# Altium footprint library PCBLib.PcbLib: 168 footprints (part 1 of 11)
Each footprint in its own frame and in the unit in brackets; x right, y up, seen from the top. Pads: shape width x height; smd on the part's side, far side on the other; paste and mask are expansions set on the pad; w line width, h text height; cw(c..) or ccw(c..) is an arc to the next point about the centre after c.
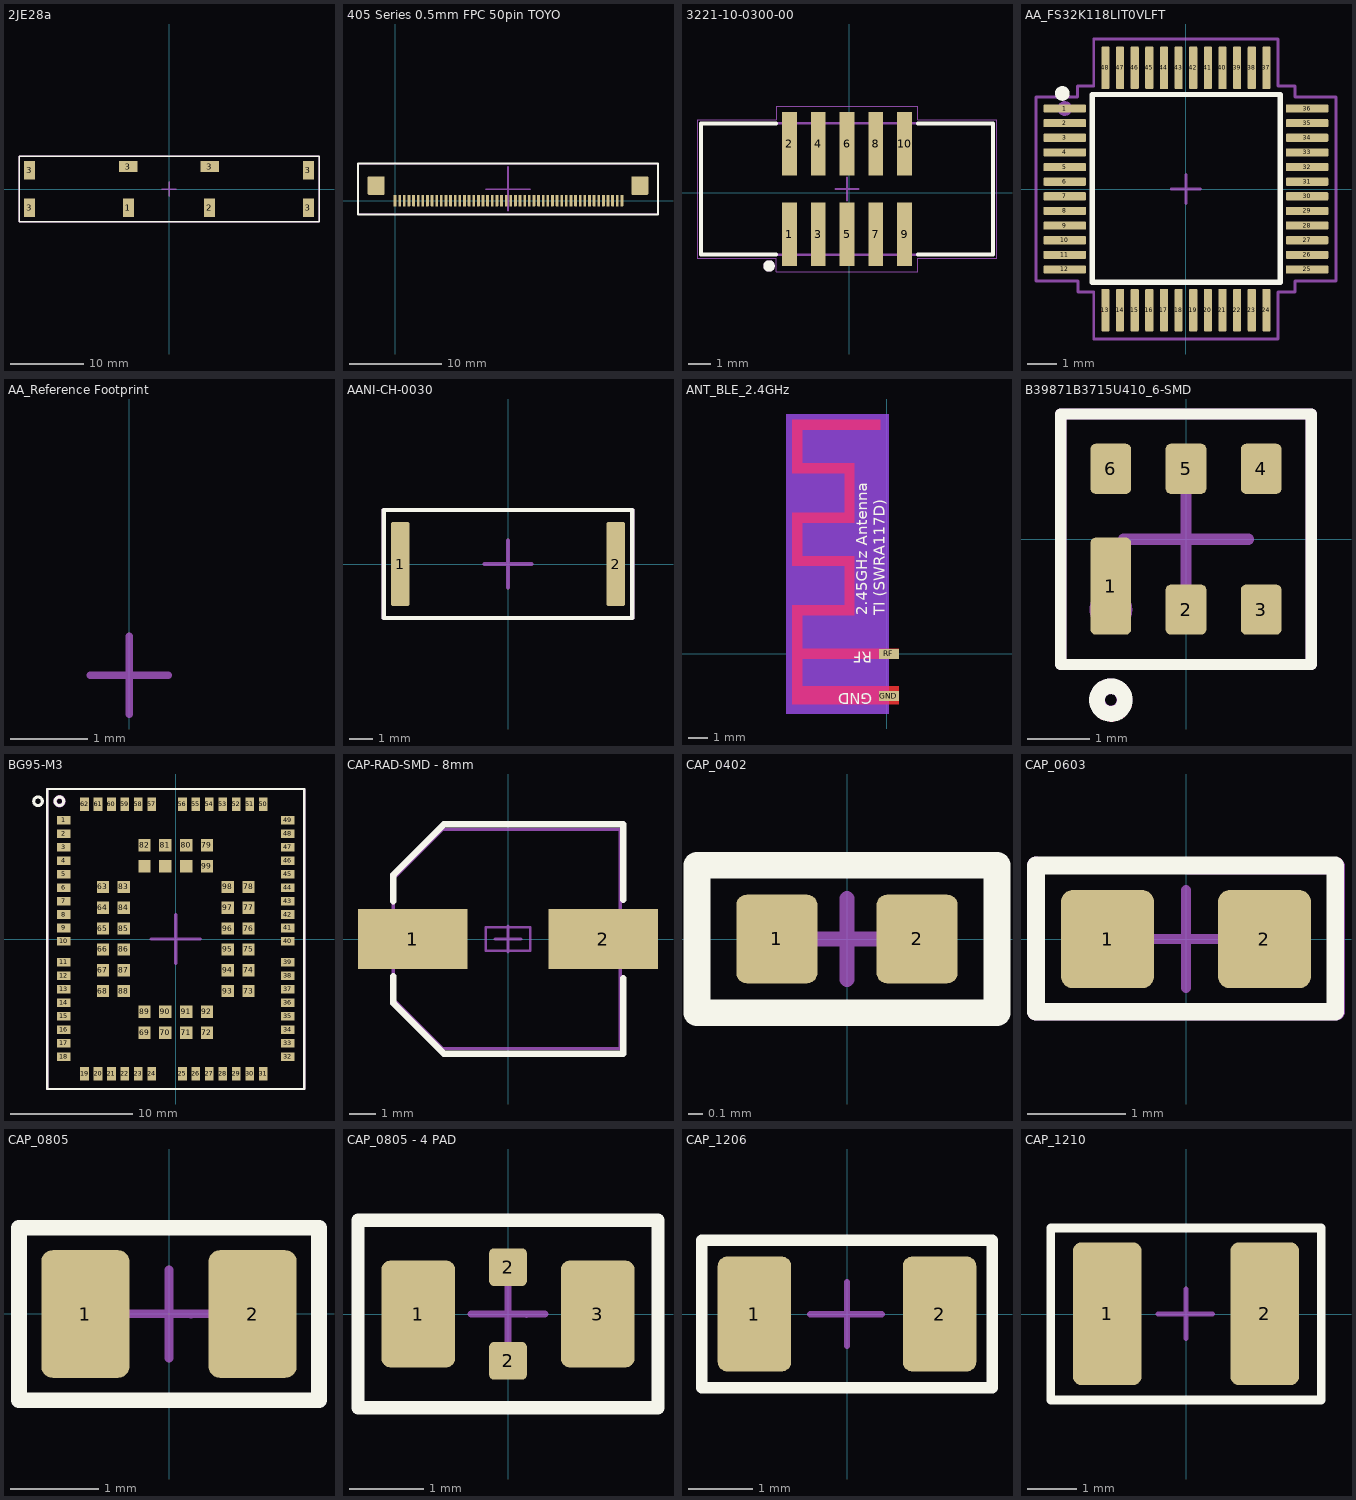
[diagram p0: the footprints below, top view; thin cyan lines are the x and y axes]

## 2JE28a [mm]
pads (8):
  rect 1.5x2.5 smd mask+0: 1(-5.55,-2.55) 2(5.55,-2.55) 3(-19.05,-2.55) 3(-19.05,2.55) 3(19.05,-2.55) 3(19.05,2.55)
  rect 2.5x1.5 smd mask+0: 3(-5.55,3.05) 3(5.55,3.05)
Top Overlay:
  lines w0.18: -20.5,-4.5 20.5,-4.5 20.5,4.5 -20.5,4.5 -20.5,-4.5
Top Assembly:
  lines w0.18: -20.5,-4.5 20.5,-4.5 20.5,4.5 -20.5,4.5 -20.5,-4.5
Top Component Center:
  lines w0.18: -1,0 1,0 ; 0,-1 0,1
Top Courtyard:
  lines w0.05: -20.5,-4.5 -20.5,4.5 20.5,4.5 20.5,-4.5 -20.5,-4.5
Top Designator:
  text ".Designator" at -3.809,-0.254 h0.76
3D body "PCB2JE28a Ver 1.0_Altium.SLDPRT": height 3.11, standoff 0, extent -20,-4 20,4

## 405 Series 0.5mm FPC 50pin TOYO [mm]
pads (52):
  rrect25% 0.3x1.25 smd mask+0.05: 1(0,0) 2(0.5,0) 3(1,0) 4(1.5,0) 5(2,0) 6(2.5,0) 7(3,0) 8(3.5,0) 9(4,0) 10(4.5,0) 11(5,0) 12(5.5,0) 13(6,0) 14(6.5,0) 15(7,0) 16(7.5,0) 17(8,0) 18(8.5,0) 19(9,0) 20(9.5,0) 21(10,0) 22(10.5,0) 23(11,0) 24(11.5,0) 25(12,0) 26(12.5,0) 27(13,0) 28(13.5,0) 29(14,0) 30(14.5,0) 31(15,0) 32(15.5,0) 33(16,0) 34(16.5,0) 35(17,0) 36(17.5,0) 37(18,0) 38(18.5,0) 39(19,0) 40(19.5,0) 41(20,0) 42(20.5,0) 43(21,0) 44(21.5,0) 45(22,0) 46(22.5,0) 47(23,0) 48(23.5,0) 49(24,0) 50(24.5,0)
  rrect10% 1.8x2 smd mask+0.05: ""(-2.05,1.625) ""(26.45,1.625)
Top Overlay:
  lines w0.18: -4,-1.5 28.4,-1.5 28.4,4 -4,4 -4,-1.5
Top Assembly:
  lines w0.15: -4,-1.5 28.4,-1.5 28.4,4 -4,4 -4,-1.5
Top Component Center:
  lines w0.2: 9.839,1.23 14.575,1.23 ; 12.2,-1.096 12.2,3.641
Top Courtyard:
  lines w0.05: -4,-1.5 -4,4 28.4,4 28.4,-1.5 -4,-1.5
Top Designator:
  text ".Designator" at 8.391,0.976 h0.76

## 3221-10-0300-00 [mm]
pads (10):
  rect 0.65x2.8 smd: 1(-2.637,-1.845) 2(-2.637,2.155) 3(-1.367,-1.845) 4(-1.367,2.155) 5(-0.097,-1.845) 6(-0.097,2.155) 7(1.173,-1.845) 8(1.173,2.155) 9(2.443,-1.845) 10(2.443,2.155)
Top Overlay:
  circle w0.25: c-3.537,-3.245 r0.125
  lines w0.18: -3.237,-2.745 -6.537,-2.745 -6.537,3.055 -3.237,3.055 ; 3.043,-2.745 6.343,-2.745 6.343,3.055 3.043,3.055
Top Assembly:
  circle w0.25: c-3.537,-3.245 r0.125
  lines w0.1: -6.547,-2.745 6.353,-2.745 6.353,3.055 -6.547,3.055 -6.547,-2.745
Top Component Center:
  lines w0.1: -0.597,0.155 0.403,0.155 ; -0.097,-0.345 -0.097,0.655
Top Courtyard:
  lines w0.05: -6.722,-2.895 -6.722,3.205 -3.222,3.205 -3.222,3.805 3.028,3.805 3.028,3.205 6.528,3.205 6.528,-2.895 3.028,-2.895 3.028,-3.495 -3.222,-3.495 -3.222,-2.895 -6.722,-2.895
Top Designator:
  text ".Designator" at -3.906,-0.099 h0.76
3D body "3221-10-0300-00 3D.STP": height 5.21, standoff 0.01, extent -6.437,-2.645 6.263,2.955

## AA_FS32K118LIT0VLFT [mm] "LQFP-48"
pads (48):
  rrect25% 1.45x0.279 smd: 1(-4.14,2.75) 2(-4.14,2.25) 3(-4.14,1.75) 4(-4.14,1.25) 5(-4.14,0.75) 6(-4.14,0.25) 7(-4.14,-0.25) 8(-4.14,-0.75) 9(-4.14,-1.25) 10(-4.14,-1.75) 11(-4.14,-2.25) 12(-4.14,-2.75) 25(4.14,-2.75) 26(4.14,-2.25) 27(4.14,-1.75) 28(4.14,-1.25) 29(4.14,-0.75) 30(4.14,-0.25) 31(4.14,0.25) 32(4.14,0.75) 33(4.14,1.25) 34(4.14,1.75) 35(4.14,2.25) 36(4.14,2.75)
  rrect25% 0.279x1.45 smd: 13(-2.75,-4.14) 14(-2.25,-4.14) 15(-1.75,-4.14) 16(-1.25,-4.14) 17(-0.75,-4.14) 18(-0.25,-4.14) 19(0.25,-4.14) 20(0.75,-4.14) 21(1.25,-4.14) 22(1.75,-4.14) 23(2.25,-4.14) 24(2.75,-4.14) 37(2.75,4.14) 38(2.25,4.14) 39(1.75,4.14) 40(1.25,4.14) 41(0.75,4.14) 42(0.25,4.14) 43(-0.25,4.14) 44(-0.75,4.14) 45(-1.25,4.14) 46(-1.75,4.14) 47(-2.25,4.14) 48(-2.75,4.14)
Top Overlay:
  circle w0.25: c-4.225,3.265 r0.125
  lines w0.18: -3.2,-3.185 3.225,-3.185 3.225,3.225 -3.2,3.225 -3.2,-3.185
Top Assembly:
  circle w0.25: c-4.14,2.75 r0.125
  lines w0.1: -3.7,-3.149 -5.119,-3.149 -5.119,3.144 -3.7,3.144 -3.7,3.525 -3.149,3.525 -3.149,5.125 3.149,5.125 3.149,3.525 3.725,3.525 3.725,3.144 5.125,3.144 5.125,-3.15 ; -3.691,-3.149 -3.691,-3.525 -3.15,-3.525 -3.15,-5.125 3.149,-5.125 3.149,-3.525 3.725,-3.525 3.725,-3.149 5.118,-3.149
Top Component Center:
  lines w0.1: -0.5,0 0.5,0 ; 0,-0.5 0,0.5
Top Courtyard:
  lines w0.05: 3.149,3.525 3.725,3.525 3.725,3.144 5.119,3.144 ; 3.15,3.525 3.15,4.525 3.15,5.125 -3.149,5.125 -3.149,3.525 -3.7,3.525 -3.7,3.144 -5.119,3.144 -5.119,-3.149 -3.7,-3.149 -3.7,-3.525 -3.15,-3.525 -3.148,-5.125 3.149,-5.125 3.149,-3.525 3.725,-3.525 3.725,-3.15 5.125,-3.15 5.125,3.134
Top Designator:
  text ".Designator" at -3.809,-0.254 h0.76
Top 3D Body:
  lines w0.05: 3.149,3.525 3.725,3.525
3D body "LQFP_M.step": height 1.6, standoff 0, extent -4.5,-4.5 4.5,4.5

## AA_Reference Footprint [mm] "Reference Footprint of PCB Stack for New Footprint creation"
Top Layer:
  text "This is a copper layer and component will be soldered on the shapes provided in this layer. / Used in PCB Fabrication / 1. Design footprint around the origin. / 2. Pads should be Rounded Rectangle with 25%  corner radius. / 3. Assign Proper Pin Numbers. / 4. Double check the dimensions and pad distances. / 5. Rotation of the pad should be 0 degree. / 6. For all components assign pin numbers in direction as provided in the datasheet. / 7. Make sure there are no unwanted objects in any layer apart from what is intended by pressing V-F. / 8. Delete this text." at 0,-18.011 h1.52
Top Overlay:
  text "This layer is used to provide visual information about the component boundary. / Used in PCB fabrication and PCB design. / 1. Draw a line around/inside the footprint with a minimum clearence of 0.254mm away from pad. / 2. Line width should be 0.18mm. / 3. Pin 1 indication should be provided for the required components with a circle of width 0.254mm and radius 0.127mm.   / 4. For diodes, mark the Cathode terminal.        / 5. Delete this text." at 0,-12.037 h1.52
Top Paste:
  text "This layer provides the information for the creation of PCB stencil. / Used in PCB assembly. / 1. This layer will be filled automatically. / 2. Make sure pad shaped objects are visible in this layer when pads are created in top layer. / 3. Delete this text." at -0.127,-7.197 h1.52
Top Solder:
  text "This layer provides the clearance between the copper and solder mask on the PCB. / This is kind of a negative layer, shapes in this layer will eliminate the solder mask on the PCB. / Used in PCB Fabrication. / 1. This layer will be filled automatically. / 2. Make sure pad shaped objects are visible in this layer when pads are created in top layer. / 3. Delete this text." at 0.157,-8.295 h1.52
Top Assembly:
  text "This layer is used to generate the Assembly Drawing only. / Used as reference during PCB assembly. / 1. Place assembly line 0.254mm away from the pad edge/3D body. / 2. Line thickness should be 0.1mm / 3. Provide pin 1 marking with circle of width 0.254mm and radius 0.127mm / 4. Place the pin one marking at the center of the pin 1 pad. / 5. This should be a closed shape. / 6. Delete this text." at -1,-12.417 h1.52
Top Component Center:
  lines w0.1: -0.5,-13.873 0.5,-13.873 ; 0,-14.373 0,-13.373
  text "This layer provides the information about the component center. / Used in PCB assembly to pick and place the component on the PCB. / 1. This should be on origin / 2. Create a + sign with 1mm in length and 0.1mm width. / 3. Reference is provided below, use that. / 4. Delete this text." at -0.254,-10.975 h1.52
Top Courtyard:
  text "This is the boundary of the compnent. While designing PCB no component can be placed <0.254mm of the shape provided in this layer. / Used during PCB design to maintain clearance between components. / 1. Draw a line 0.254mm away from the foorptint of the component / 3D body.  / 2. The line thickness should be 0.05mm. / 3. Avoid using generic shapes, draw this layer matching the component shape. / 4. Delete this text." at -0.207,-9.599 h1.52
Top Designator:
  text ".Designator" at -3.809,-0.254 h0.76
  text "This is used to generate designators in the assembly drawing. / Used in PCB assembly and PCB design. / 1. Place a string with text \".Designator\" at the origin of the footprint. / 2. Font Type - Stroke / 3. Text Height - 0.762mm / 4. Stroke Width - 0.127mm / 5. Reference is provided below, use that. / 6. Delete this text." at 0,2.263 h1.52
Top 3D Body:
  text "This layer is used to provide the 3D body of the component. / Used during PCB design and mechanical clearence. / 1. Download the step file from the official manufacturer website. / 2. Place the 3D body on the surface of the pad. / 3. Align the 3D body properly with the footprint pad. / 4. Verify the placement in 3D mode. / 5. Delete this text." at -0.366,-7.701 h1.52

## AANI-CH-0030 [mm]
pads (2):
  rrect25% 0.8x3.6 smd mask+0.05: 1(-4.6,0) 2(4.6,0)
Top Overlay:
  lines w0.18: -5.3,-2.3 5.3,-2.3 5.3,2.3 -5.3,2.3 -5.3,-2.3
Top Assembly:
  lines w0.18: -5.3,-2.3 -5.3,2.3 5.3,2.3 5.3,-2.3 -5.3,-2.3
Top Component Center:
  lines w0.18: -1,0 1,0 ; 0,-1 0,1
Top Courtyard:
  lines w0.05: -5.3,-2.3 -5.3,2.3 5.3,2.3 5.3,-2.3 -5.3,-2.3
Top Designator:
  text ".Designator" at -3.809,-0.254 h0.76
3D body "AANI-CH-0030.STEP": height 0.8, standoff 0, extent -5,-2 5,2

## ANT_BLE_2.4GHz [mil]
pads (2):
  rect 40x20 smd: GND(3.94,-84.25) RF(3.94,0)
Top Layer:
  region: -84.25,175.2 -168.89,175.2 -168.89,194.89 -84.25,194.89
  region: 24.02,-9.84 -168.89,-9.84 -168.89,9.85 24.02,9.85
  region: -13.38,446.85 -168.89,446.85 -168.89,466.54 -13.38,466.54
  region: -168.89,379.93 -188.58,379.93 -188.58,466.54 -168.89,466.54
  region: -84.25,360.24 -188.58,360.24 -188.58,379.93 -84.25,379.93
  region: -64.56,281.5 -84.25,281.5 -84.25,379.93 -64.56,379.93
  region: -64.56,76.78 -84.25,76.78 -84.25,194.89 -64.56,194.89
  region: -64.56,261.81 -168.89,261.81 -168.89,281.5 -64.56,281.5
  region: -168.89,175.2 -188.58,175.2 -188.58,281.5 -168.89,281.5
  region: -66.53,76.78 -168.89,76.78 -168.89,96.46 -66.53,96.46
  region: -168.89,-64.96 -188.58,-64.96 -188.58,96.46 -168.89,96.46
  region: 24.02,-100.39 -188.58,-100.39 -188.58,-64.96 24.02,-64.96
Top Layer keep-out:
  region: 4.33,-120.08 -200.39,-120.08 -200.39,478.35 4.33,478.35
Bottom Layer keep-out:
  region: 4.33,-120.08 -200.39,-120.08 -200.39,478.35 4.33,478.35
Top Overlay:
  text "TI (SWRA117D)" at 4.33,76.78 h37.2
  text "GND" at -29.13,-70.86 h37.2
  text "RF" at -29.13,11.81 h37.2
  text "2.45GHz Antenna" at -31.1,76.78 h37.2

## B39871B3715U410_6-SMD [mm]
pads (6):
  rrect25% 0.65x1.55 smd mask+0.05: 1(-1.2,-0.749)
  rrect25% 0.65x0.8 smd mask+0.05: 2(0,-1.125) 3(1.2,-1.125) 4(1.2,1.125) 5(0,1.125) 6(-1.2,1.125)
Top Overlay:
  circle w0.25: c-1.2,-2.569 r0.223
  lines w0.18: -2,-2 2,-2 2,2 -2,2 -2,-2
Top Assembly:
  circle w0.25: c-1.2,-2.566 r0.217
  circle w0.25: c-1.2,-1.125 r0.217
  lines w0.18: -2,-2 -2,2 2,2 2,-2 -2,-2
Top Component Center:
  lines w0.18: -1,0 1,0 ; 0,-1 0,1
Top Courtyard:
  lines w0.05: -2,-2 -2,2 2,2 2,-2 -2,-2
Top Designator:
  text ".Designator" at -3.809,-0.254 h0.76
3D body "SON_715U410_TDK.step": height 1.09, standoff 0, extent -1.499,-1.499 1.499,1.499

## BG95-M3 [mm]
pads (102):
  rect 1.1x0.7 smd paste-2539.97: 1(-9.15,9.7) 2(-9.15,8.6) 3(-9.15,7.5) 4(-9.15,6.4) 5(-9.15,5.3) 6(-9.15,4.2) 7(-9.15,3.1) 8(-9.15,2) 9(-9.15,0.9) 10(-9.15,-0.2) 11(-9.15,-1.9) 12(-9.15,-3) 13(-9.15,-4.1) 14(-9.15,-5.2) 15(-9.15,-6.3) 16(-9.15,-7.4) 17(-9.15,-8.5) 18(-9.15,-9.6) 32(9.15,-9.6) 33(9.15,-8.5) 34(9.15,-7.4) 35(9.15,-6.3) 36(9.15,-5.2) 37(9.15,-4.1) 38(9.15,-3) 39(9.15,-1.9) 40(9.15,-0.2) 41(9.15,0.9) 42(9.15,2) 43(9.15,3.1) 44(9.15,4.2) 45(9.15,5.3) 46(9.15,6.4) 47(9.15,7.5) 48(9.15,8.6) 49(9.15,9.7)
  rect 0.7x1.1 smd paste-2539.97: 19(-7.45,-11) 20(-6.35,-11) 21(-5.25,-11) 22(-4.15,-11) 23(-3.05,-11) 24(-1.95,-11) 25(0.55,-11) 26(1.65,-11) 27(2.75,-11) 28(3.85,-11) 29(4.95,-11) 30(6.05,-11) 31(7.15,-11) 50(7.15,11) 51(6.05,11) 52(4.95,11) 53(3.85,11) 54(2.75,11) 55(1.65,11) 56(0.55,11) 57(-1.95,11) 58(-3.05,11) 59(-4.15,11) 60(-5.25,11) 61(-6.35,11) 62(-7.45,11)
  rect 1x1 smd paste-2539.97: 63(-5.95,4.25) 64(-5.95,2.55) 65(-5.95,0.85) 66(-5.95,-0.85) 67(-5.95,-2.55) 68(-5.95,-4.25) 69(-2.55,-7.65) 70(-0.85,-7.65) 71(0.85,-7.65) 72(2.55,-7.65) 73(5.95,-4.25) 74(5.95,-2.55) 75(5.95,-0.85) 76(5.95,0.85) 77(5.95,2.55) 78(5.95,4.25) 79(2.55,7.65) 80(0.85,7.65) 81(-0.85,7.65) 82(-2.55,7.65) 83(-4.25,4.25) 84(-4.25,2.55) 85(-4.25,0.85) 86(-4.25,-0.85) 87(-4.25,-2.55) 88(-4.25,-4.25) 89(-2.55,-5.95) 90(-0.85,-5.95) 91(0.85,-5.95) 92(2.55,-5.95) 93(4.25,-4.25) 94(4.25,-2.55) 95(4.25,-0.85) 96(4.25,0.85) 97(4.25,2.55) 98(4.25,4.25) 99(2.55,5.95) 100(0.85,5.95) 101(-0.85,5.95) 102(-2.55,5.95)
Top Overlay:
  circle w0.25: c-11.25,11.25 r0.354
  circle w0.25: c-9.5,11.25 r0.354
  lines w0.2: -10.5,-12.25 10.5,-12.25 10.5,12.25 -10.5,12.25 -10.5,-12.25
Top Paste:
  drawing of 102 lines, arcs and shapes, not listed
Top Assembly:
  circle w0.3: c-9.5,11.25 r0.354
  lines w0.18: -10.5,-12.25 -10.5,12.25 10.5,12.25 10.5,-12.25 -10.5,-12.25
Top Component Center:
  lines w0.25: -2,0 2,0 ; 0,-2 0,2
Top Courtyard:
  lines w0.05: -10.5,-12.25 -10.5,12.25 10.5,12.25 10.5,-12.25 -10.5,-12.25
Top Designator:
  text ".Designator" at -3.809,-0.254 h0.76
3D body "step_temp.STEP": height 2.4, standoff 0, extent -9.95,-11.8 9.95,11.8

## CAP-RAD-SMD - 8mm [mm]
pads (2):
  rect 4.2x2.3 smd mask+0.051: 1(-3.65,0) 2(3.65,0)
Top Overlay:
  lines w0.254: -4.394,-1.422 -4.394,-2.464 -2.458,-4.4 4.42,-4.4 4.42,-1.5 ; -4.394,1.448 -4.394,2.464 -2.458,4.4 4.42,4.4 4.42,1.5
Top Assembly:
  lines w0.127: -4.4,-2.3 -2.5,-4.2 4.3,-4.2 4.3,4.2 -2.5,4.2 -4.4,2.3 -4.4,-2.3
Top Component Center:
  lines w0.1: -0.5,0 0.5,0 ; 0,-0.5 0,0.5
Top Courtyard:
  lines w0.05: -4.4,-2.3 -4.4,2.3 -2.5,4.2 4.3,4.2 4.3,-4.2 -2.5,-4.2 -4.4,-2.3
  lines w0.1: -0.5,0 0.5,0 ; 0,-0.5 0,0.5
Top Designator:
  text ".Designator" at -7.618,-0.508 h1.52
Top 3D Body:
  lines w0.1: -4.4,-2.3 -4.4,2.3 -2.5,4.2 4.3,4.2 4.3,-4.2 -2.5,-4.2 -4.4,-2.3 ; -0.85,-0.45 0.85,-0.45 0.85,0.45 -0.85,0.45 -0.85,-0.45
3D body "EEV227M035S9MAA.step": height 10.51, standoff 0, extent -5.25,-4.25 5.25,4.25

## CAP_0402 [mm]
pads (2):
  rrect25% 0.55x0.6 smd mask+0.05: 1(-0.475,0) 2(0.475,0)
Top Overlay:
  lines w0.18: -1.016,-0.5 -1.016,0.5 0.762,0.5 1.016,0.5 1.016,-0.5 0.7,-0.5 -1.016,-0.5
Top Assembly:
  lines w0.1: -1.016,-0.508 -1.016,0.508 1.016,0.508 1.016,-0.508 -1.016,-0.508
Top Component Center:
  lines w0.1: -0.275,0 0.275,0 ; 0,-0.275 0,0.275
Top Courtyard:
  lines w0.05: -1.016,-0.5 -1.016,0.5 1.016,0.5 1.016,-0.5 -1.016,-0.5
Top Designator:
  text ".Designator" at -3.809,-0.254 h0.76
3D body "CAP_0402.step": height 0.5, standoff 0, extent -0.525,-0.275 0.525,0.275

## CAP_0603 [mm]
pads (2):
  rrect25% 0.95x1 smd mask+0.05: 1(-0.8,0) 2(0.8,0)
Top Overlay:
  lines w0.18: -1.529,-0.742 -1.529,0.75 1.52,0.75 1.52,-0.742 -1.529,-0.742
Top Assembly:
  lines w0.18: -1.529,-0.742 -1.529,0.752 1.529,0.743 1.529,-0.742 -1.529,-0.742
Top Component Center:
  lines w0.1: -0.5,0 0.5,0 ; 0,-0.5 0,0.5
Top Courtyard:
  lines w0.05: -1.529,-0.75 -1.529,0.75 1.529,0.75 1.529,-0.75 -1.529,-0.75
Top Designator:
  text ".Designator" at -3.809,-0.254 h0.76
3D body "CAP_0603.step": height 0.9, standoff 0, extent -0.875,-0.475 0.875,0.475

## CAP_0805 [mm]
pads (2):
  rrect25% 1x1.45 smd mask+0.05: 1(-0.95,-0.002) 2(0.95,-0.002)
Top Overlay:
  lines w0.18: -1.704,-0.981 1.704,-0.981 1.704,0.977 -1.704,0.977 -1.704,-0.981
Top Assembly:
  lines w0.1: -1.704,-0.981 1.704,-0.981 1.704,0.977 -1.704,0.977 -1.704,-0.981
Top Component Center:
  lines w0.1: -0.498,0 0.502,0 ; 0,-0.502 0,0.498 ; 0.25,-0.002 0.252,0
Top Courtyard:
  lines w0.05: -1.704,-0.981 1.704,-0.981 1.704,0.977 -1.704,0.977 -1.704,-0.981
Top Designator:
  text ".Designator" at -3.809,-0.254 h0.76
3D body: height 1.25, standoff 0, extent -0.5,-0.725 0.5,0.725
3D body: height 1.25, standoff 0, extent -1.1,-0.725 -0.5,0.725
3D body: height 1.25, standoff 0, extent 0.5,-0.725 1.1,0.725

## CAP_0805 - 4 PAD [mm]
pads (4):
  rrect25% 1x1.45 smd mask+0.05: 1(-1.215,0) 3(1.215,0)
  rrect25% 0.51x0.51 smd mask+0.05: 2(0,-0.635) 2(0,0.635)
Top Overlay:
  lines w0.18: -2.032,-1.27 2.032,-1.27 2.032,1.27 -2.032,1.27 -2.032,-1.27
Top Assembly:
  lines w0.1: -2.032,-1.27 2.032,-1.27 2.032,1.27 -2.032,1.27 -2.032,-1.27
Top Component Center:
  lines w0.1: -0.498,0 0.502,0 ; 0,-0.502 0,0.498 ; 0.25,-0.002 0.252,0
Top Courtyard:
  lines w0.05: -2.032,-1.27 2.032,-1.27 2.032,1.27 -2.032,1.27 -2.032,-1.27
Top Designator:
  text ".Designator" at -3.809,-0.254 h0.76
3D body "W2H11A1018AT1F.STEP": height 1.14, standoff 0, extent -1.005,-0.625 1.005,0.625

## CAP_1206 [mm]
pads (2):
  rrect25% 1.15x1.8 smd mask+0.05: 1(-1.45,0) 2(1.45,0)
Top Overlay:
  lines w0.18: -2.279,-1.154 -2.279,1.154 2.279,1.154 2.279,-1.154 -2.279,-1.154
Top Assembly:
  lines w0.1: -2.279,-1.154 2.279,-1.154 2.279,1.154 -2.279,1.154 -2.279,-1.154
Top Component Center:
  lines w0.1: -0.575,-0.005 0.543,-0.005 ; 0,-0.5 0,0.5
Top Courtyard:
  lines w0.05: -2.279,-1.154 2.279,-1.154 2.279,1.154 -2.279,1.154 -2.279,-1.154
Top Designator:
  text ".Designator" at -3.809,-0.259 h0.76
3D body "C1206C104F3GECAUTO.step": height 1.8, standoff 0, extent -1.699,-0.896 1.701,0.904

## CAP_1210 [mm]
pads (2):
  rrect25% 1.4x2.9 smd mask+0.05: 1(-1.6,0.005) 2(1.6,0.005)
Top Overlay:
  lines w0.18: -2.75,-1.75 2.75,-1.75 2.75,1.75 -2.75,1.75 -2.75,-1.75
Top Assembly:
  lines w0.1: -2.75,-1.75 -2.75,1.75 2.75,1.75 2.75,-1.75 -2.75,-1.75
Top Component Center:
  lines w0.1: -0.575,0 0.543,0 ; 0,-0.495 0,0.505
Top Courtyard:
  lines w0.05: -2.75,-1.75 -2.75,1.75 2.75,1.75 2.75,-1.75 -2.75,-1.75
Top Designator:
  text ".Designator" at -3.809,-0.254 h0.76
3D body "CL32A106KAULNNE.step": height 2.8, standoff 0, extent -1.6,-1.25 1.6,1.25